# Altium schematic symbol library buttons.SchLib: 16 symbols
Pins are listed as number, name and electrical type; pins without a type are passive.

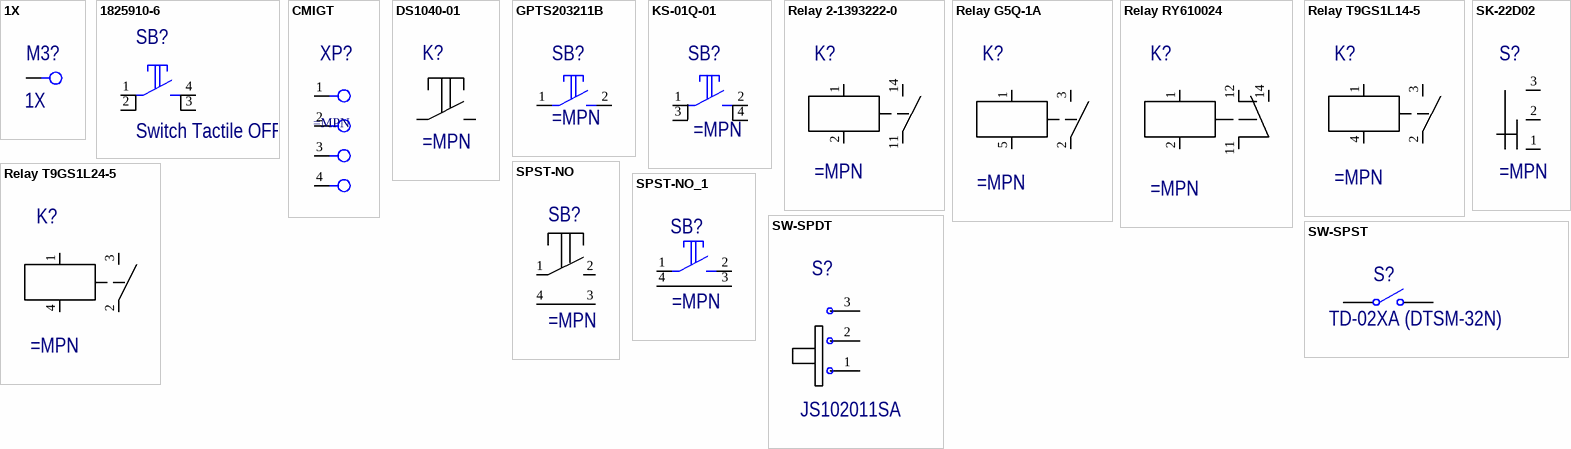
[diagram p0: symbols 1X to SW-SPST]

## 1X
designator M3?
pins: 1

## 1825910-6
designator SB?, comment Switch Tactile OFF (ON) SPST Round Button PC Pins 0.05A 24VDC 100000Cycles 1.57N Thru-Hole Loose
pins: 1, 2, 3, 4

## CMIGT
designator XP?
pins: 1 A, 2 A, 3 A, 4 A

## DS1040-01
designator K?
pins: 1, 2

## GPTS203211B
designator SB?
pins: 1, 2

## KS-01Q-01
designator SB?
pins: 1, 2, 3, 4

## Relay 2-1393222-0
designator K?
Power Relay 12VDC 8A SPST-NO (28.6mm 10mm 15mm) THT
pins: 1, 2, 11, 14

## Relay G5Q-1A
designator K?
Miniature Power Relay with / 1-pole 10A Switching Capacity
pins: 1, 2, 3, 5

## Relay RY610024
designator K?
1-Form-C, SPDT, 1CO, 24VDC/8A monostab
pins: 1, 2, 11, 12, 14

## Relay T9GS1L14-5
designator K?
Relay 5VDC 30A/250VAC
pins: 1, 2, 3, 4

## Relay T9GS1L24-5
designator K?
Relay 5VDC 30A/250VAC
pins: 1, 2, 3, 4

## SK-22D02
designator S?
SPDT Subminiature Toggle Switch, Right Angle Mounting, Vertical Actuation
pins: 1, 2, 3

## SPST-NO
designator SB?
pins: 1, 2, 3, 4

## SPST-NO_1
designator SB?
pins: 1, 2, 3, 4

## SW-SPDT
designator S?, comment JS102011SA
SPDT Subminiature Toggle Switch, Right Angle Mounting, Vertical Actuation; ComponentLink1Description: Manufacturer Link; ComponentLink1URL: http://www.apem.com
pins: 1, 2, 3

## SW-SPST
designator S?, comment TD-02XA (DTSM-32N)
Single-Pole, Single-Throw Switch
pins: 1 COMMON, 2 NO